# Altium schematic symbol library МЦТР.00010528.00.001.SCHLIB: 54 symbols
Pins are listed as number, name and electrical type; pins without a type are passive.

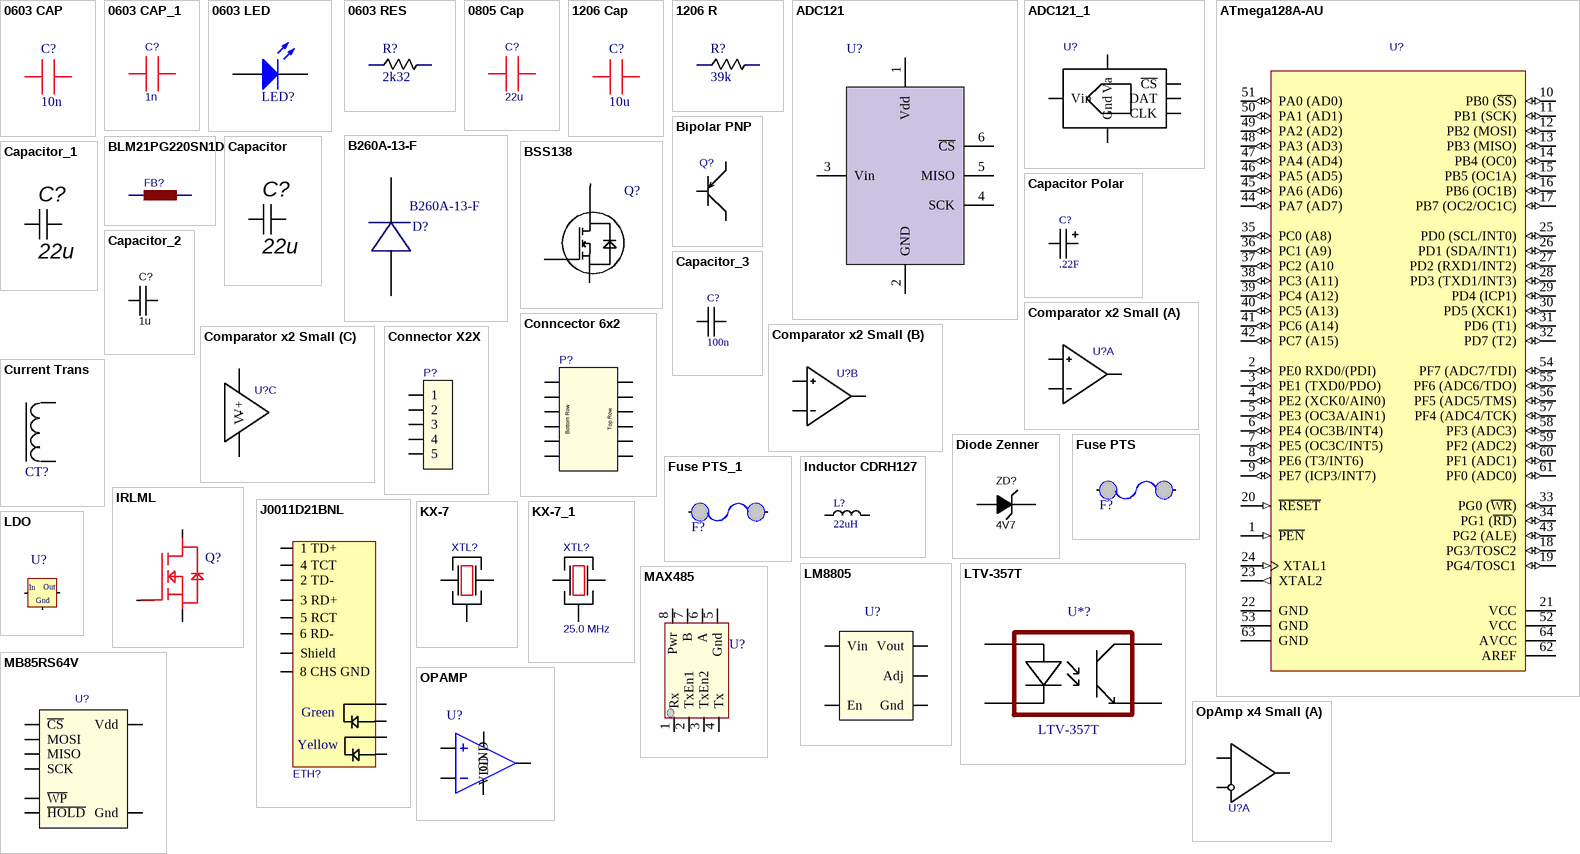
[diagram p0: symbols 0603 CAP to OpAmp x4 Small]

## 0603 CAP
designator C?, comment 10n
CC0603JRX7R9BB103
footprint 0603
pins: 1, 2

## 0603 CAP_1
designator C?, comment 1n
CC1206KKX7RDBB102
footprint 1206
pins: 1, 2

## 0603 LED
designator LED?, comment LED Green  (value not drawn)
KP-1608SGC; Published: 8-Jun-2000; LatestRevisionDate: 08-Jul-2005; LatestRevisionNote: Mech Layer 1 removed.; PackageReference: LED-0; Publisher: Altium Limited; PackageDescription: LED; 2 Leads
footprint 0603
pins: 1 A, 2 K

## 0603 RES
designator R?, comment 2k32
RC0603FR-072K32L
footprint 0603
pins: 1, 2

## 0805 Cap
designator C?, comment 22u
CC1206KKX5R8BB226
footprint 1206
pins: 1, 2

## 1206 Cap
designator C?, comment 10u
GRM32ER71H106KA12L
footprint 1210
pins: 1, 2

## 1206 R
designator R?, comment 39k
RC1206FR-0739KL
footprint 1206
pins: 1, 2

## ADC121
designator U?, comment SAR ADC  (value not drawn)
ADC121S021CIMF
footprint SOT23 - 6
pins: 1 Vdd, 2 GND, 3 Vin, 4 SCK, 5 MISO, 6 ~{CS}

## ADC121_1
designator U?, comment SAR ADC  (value not drawn)
ADC121S021CIMF
footprint SOT-23-6
pins: 1 Va, 2 Gnd, 3 Vin, 4 CLK, 5 DAT, 6 ~{CS}

## ATmega128A-AU
designator U?, comment MCU  (value not drawn)
ATmega128A-AU; DatasheetVersion: revH, Feb-2011; PackageVersion: revC, Oct-2010; PackageReference: 64A; PackageDescription: 64-Pin Plastic Thin Profile Quad Flat Pack, 14 x 14 x 1.0 mm Body, 0.8 mm Pitch (TQFP); Code_JEDEC: MS-026-AEB; ComponentLink1Description: Manufacturer URL; ComponentLink1URL: http://www.atmel.com/; ComponentLink2Description: ATmega128A Datasheet; ComponentLink2URL: http://www.atmel.com/dyn/resources/prod_documents/doc8151.pdf; ComponentLink3Description: ATmega128A Summary; ComponentLink3URL: http://www.atmel.com/dyn/resources/prod_documents/8151S.pdf
footprint 64A_N (Thin QFP, 64-Leads, Body 14x14mm, Pitch 0.8mm, IPC Medium Density)
pins: 1 ~{PEN} (in), 2 PE0 RXD0/(PDI) (io), 3 PE1 (TXD0/PDO) (io), 4 PE2 (XCK0/AIN0) (io), 5 PE3 (OC3A/AIN1) (io), 6 PE4 (OC3B/INT4) (io), 7 PE5 (OC3C/INT5) (io), 8 PE6 (T3/INT6) (io), 9 PE7 (ICP3/INT7) (io), 10 PB0 (~{SS}) (io), 11 PB1 (SCK) (io), 12 PB2 (MOSI) (io), 13 PB3 (MISO) (io), 14 PB4 (OC0) (io), 15 PB5 (OC1A) (io), 16 PB6 (OC1B) (io), 17 PB7 (OC2/OC1C) (io), 18 PG3/TOSC2 (io), 19 PG4/TOSC1 (io), 20 ~{RESET} (in), 21 VCC (power), 22 GND (power), 23 XTAL2 (out), 24 XTAL1 (in), 25 PD0 (SCL/INT0) (io), 26 PD1 (SDA/INT1) (io), 27 PD2 (RXD1/INT2) (io), 28 PD3 (TXD1/INT3) (io), 29 PD4 (ICP1) (io), 30 PD5 (XCK1) (io), 31 PD6 (T1) (io), 32 PD7 (T2) (io), 33 PG0 (~{WR}) (io), 34 PG1 (~{RD}) (io), 35 PC0 (A8) (io), 36 PC1 (A9) (io), 37 PC2 (A10 (io), 38 PC3 (A11) (io), 39 PC4 (A12) (io), 40 PC5 (A13) (io), 41 PC6 (A14) (io), 42 PC7 (A15) (io), 43 PG2 (ALE) (io), 44 PA7 (AD7) (io), 45 PA6 (AD6) (io), 46 PA5 (AD5) (io), 47 PA4 (AD4) (io), 48 PA3 (AD3) (io), 49 PA2 (AD2) (io), 50 PA1 (AD1) (io), 51 PA0 (AD0) (io), 52 VCC (power), 53 GND (power), 54 PF7 (ADC7/TDI) (io), 55 PF6 (ADC6/TDO) (io), 56 PF5 (ADC5/TMS) (io), 57 PF4 (ADC4/TCK) (io), 58 PF3 (ADC3) (io), 59 PF2 (ADC2) (io), 60 PF1 (ADC1) (io), 61 PF0 (ADC0) (io), 62 AREF (power), 63 GND (power), 64 AVCC (power)

## B260A-13-F
designator D?
footprint DO-214Pol
pins: 1, 2 1

## Bipolar PNP
designator Q?, comment PNP Bipolar Transistor  (value not drawn)
BC857
footprint SOT-23
pins: 1 B, 2 E, 3 C

## BLM21PG220SN1D
designator FB?, comment Ferrite Bead  (value not drawn)
BLM21PG220SN1D
footprint 0805
pins: 1, 2

## BSS138
designator Q?, comment MOSFET-N  (value not drawn)
IRLML2502TR
footprint SOT23
pins: 1 G, 2 S, 3 D

## Capacitor
designator C?, comment 22u
CC0805MKX5R6BB226; Value: 100 нФ; Type: Конденсатор ЧИП; Name: 0805; Power/Voltage: 50В; Tolerance: 10%
footprint 0805
pins: 1, 2

## Capacitor Polar
designator C?, comment .22F
5R5D10F33V
footprint Supercap -D20-V (SuperCapacitor D=20 mm Vertical Orientation); pin to pad 1>2 2>1
pins: 1, 2

## Capacitor_1
designator C?, comment 22u
CC0805MKX5R6BB226; Value: 100 нФ; Type: Конденсатор ЧИП; Name: 0805; Power/Voltage: 50В; Tolerance: 10%
footprint 0805
pins: 1, 2

## Capacitor_2
designator C?, comment 1u
CC0603KRX5R7BB105
footprint CAP CER 0603 NP (Capacitor Ceramical SMD 0603 Non-Polar)
pins: 1, 2

## Capacitor_3
designator C?, comment 100n
CC0603KRX7R9BB104
footprint 0603
pins: 1, 2

## Comparator x2 Small
designator U?  (value not drawn)
LM2903
footprint SOIC-8; pin to pad 1>3 3>1 4>5 5>6 6>7 7>8 8>4
part A pins: 1 +IN, 2 -IN, 3 OUT
part B pins: 4 +IN, 5 -IN, 6 OUT
part C pins: 7 V+, 8 V-

## Conncector 6x2
designator P?  (value not drawn)
MCD 1,5/6-G1-3,81 PCB Connector
footprint Connector 6x2
pins: 1, 2, 3, 4, 5, 6, 7, 8, 9, 10, 11, 12
text: Bottom Row; Top Row

## Connector X2X
designator P?, comment Conncector X2X  (value not drawn)
EMSTBA 2,5/ 5-G-5,08 PCB Connector
footprint Connector X2X (EMSTBA 2,5/ 5-G-5,08 PCB Connector)
pins: 1, 2, 3, 4, 5

## Current Trans
designator CT?, comment Current Transformer  (value not drawn)
AC-1005
footprint Talema AC1005 (Current Transformer Talema AC1005)
pins: 1, 2

## Diode Zenner
designator ZD?, comment 4V7
BZX384-C4V7
footprint SOD323 (SC-76) - Reflow (SOD323 (SC-76) for Reflow Soldering); pin to pad 1>2 2>1
pins: 1 A, 2 C

## Fuse PTS
designator F?, comment Resettable FUSE  (value not drawn)
MF-MSMF030-2
footprint 1812
pins: 1, 2

## Fuse PTS_1
designator F?, comment Resettable FUSE  (value not drawn)
MF-USMF005-2
footprint 1210
pins: 1, 2

## Inductor CDRH127
designator L?, comment 22uH
CDRH127/LDNP-220MC; Value: 22uH
footprint CDRH127
pins: 1, 2

## IRLML
designator Q?, comment MOSFET-N  (value not drawn)
IRLML2502TR
footprint SOT23
pins: 1, 2, 3

## J0011D21BNL
designator ETH?, comment Ethernet RJ-45 Port  (value not drawn)
J0011D21BNL
footprint J011D21BNL (Ehernet Port J011D21BNL by YAGEO)
pins: 1 1 TD+, 2 2 TD-, 3 3 RD+, 4 4 TCT, 5 5 RCT, 6 6 RD-, 8 8 CHS GND, 9 LDGr, 10 LDGr, 11 LDYE, 12 LDYE, SHIELD Shield
text: Green; Yellow

## KX-7
designator XTL?, comment 16.0 MHz  (value not drawn)
12.88605
footprint ABM10
pins: 1 5, 2, 3 5

## KX-7_1
designator XTL?, comment 25.0 MHz
12.88711
footprint KX-7 XTAL
pins: 1 5, 2, 3 5

## LDO
designator U?, comment LDO 5V  (value not drawn)
LD1117S50CTR
footprint SOT223
pins: 1 GND, 2 OUT, 3 IN
text: In; Out; Gnd

## LM8805
designator U?, comment LDO with Enable Pin  (value not drawn)
LM8805SF5-3.3
footprint SOT-23-5
pins: 1 Vin, 2 Gnd, 3 En, 4 Adj, 5 Vout

## LTV-357T
designator U*?
footprint SOP-4; pin to pad Anode>1 Cathode>2 Collector>4 Emmiter>3
pins: Anode A, Cathode C, Collector C, Emmiter E

## MAX485
designator U?, comment RS485 Driver  (value not drawn)
SN65HVD3082EDR
footprint SOIC 8
pins: 1 Rx, 2 TxEn1, 3 TxEn2, 4 Tx, 5 Gnd, 6 A, 7 B, 8 Pwr

## MB85RS64V
designator U?, comment FRAM SPI IC  (value not drawn)
MB85RS64VPNF-G-JNERE1
footprint SOIC-8
pins: 1 ~{CS}, 2 MISO, 3 ~{WP}, 4 Gnd, 5 MOSI, 6 SCK, 7 ~{HOLD}, 8 Vdd

## OPAMP
designator U?, comment TS321ILT  (value not drawn)
footprint SOT235
pins: 1 OUT, 2 GND, 3 +IN, 4 -IN, 5 VDD

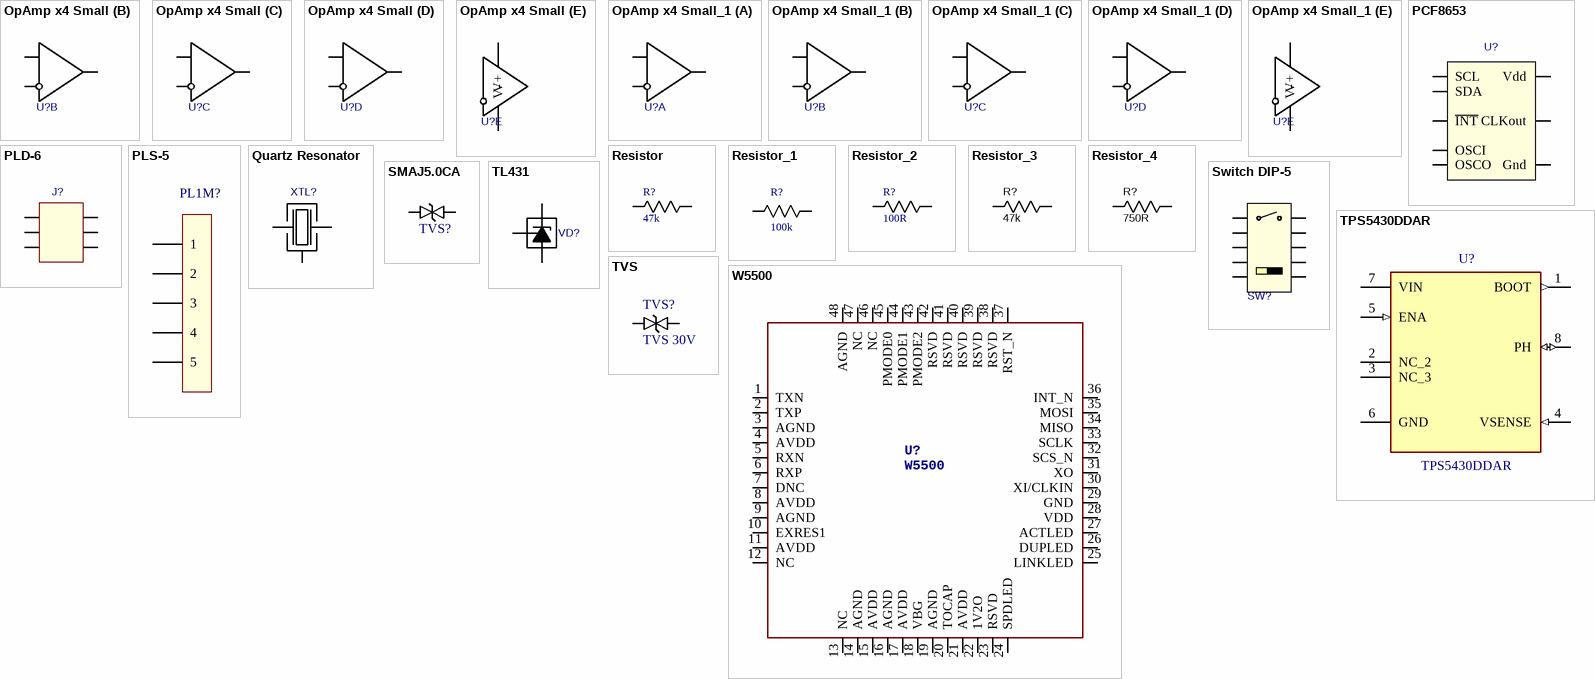
[diagram p1: symbols OpAmp x4 Small to W5500]

## OpAmp x4 Small
designator U?  (value not drawn)
LMV324IDT
footprint SOIC-14; pin to pad 1>3 3>1 4>5 5>6 6>7 7>10 8>9 9>8 10>12 11>13 12>14 13>11 14>4
part A pins: 1 +IN1, 2 -IN1, 3 OUT1
part B pins: 4 +IN2, 5 -IN2, 6 OUT2
part C pins: 7 +IN3, 8 -IN3, 9 OUT3
part D pins: 10 +IN4, 11 -IN4, 12 OUT4
part E pins: 13 V+, 14 V-

## OpAmp x4 Small_1
designator U?, comment OpAmp x4 Small  (value not drawn)
LMV324IDT
footprint SOIC-14; pin to pad 1>3 3>1 4>5 5>6 6>7 7>10 8>9 9>8 10>12 11>13 12>14 13>11 14>4
part A pins: 1 +IN, 2 -IN, 3 OUT
part B pins: 4 +IN, 5 -IN, 6 OUT
part C pins: 7 +IN, 8 -IN, 9 OUT
part D pins: 10 +IN, 11 -IN, 12 OUT
part E pins: 13 V+, 14 V-

## PCF8653
designator U?, comment Real-Time Clock IC  (value not drawn)
PCF8563T/5,518
footprint SOIC-8
pins: 1 OSCI, 2 OSCO, 3 ~{INT}, 4 Gnd, 5 SDA, 6 SCL, 7 CLKout, 8 Vdd

## PLD-6
designator J?, comment Pin Line 2x3  (value not drawn)
PLD-6
footprint PLD-6 2.54 (2 Rows x 3 Pins)
pins: 1, 2, 3, 4, 5, 6

## PLS-5
designator PL1M?, comment Pin Line  (value not drawn)
PLS-5 2.54
footprint PLS-5 2.54
pins: 1, 2, 3, 4, 5

## Quartz Resonator
designator XTL?, comment 32.768 kHz  (value not drawn)
12.87150
footprint XTAL KX-327NHT
pins: 1, 2, 3

## Resistor
designator R?, comment 47k
RC0603FR-0747KL
footprint RES 0603 (Resistor SMD 0603)
pins: 1, 2

## Resistor_1
designator R?, comment 100k
RC0603FR-07100KL
footprint 0603
pins: 1, 2

## Resistor_2
designator R?, comment 100R
RT1206BRD07100RL
footprint 1206
pins: 1, 2

## Resistor_3
designator R?, comment 47k
RC0603FR-0747KL
footprint RES 0603 (Resistor SMD 0603)
pins: 1, 2

## Resistor_4
designator R?, comment 750R
RC1206FR-07750RL
footprint RES 1210 (Resistor SMD 1210)
pins: 1, 2

## SMAJ5.0CA
designator TVS?, comment TVS 5V  (value not drawn)
SMAJ5.0CA
footprint DO-214AC
pins: 1, 2

## Switch DIP-5
designator SW?, comment DIP-Switch 5 Pins  (value not drawn)
DIP-Switch NDP-05
footprint Switch DIP-5 (DIP-Switch 5 Pins)
pins: 1, 2, 3, 4, 5, 6, 7, 8, 9, 10

## TL431
designator VD?, comment Zenner Diode Adjustable  (value not drawn)
TL431ACDBZR
footprint SOT-23; pin to pad 1>3 2>1 3>2
pins: 1 A, 2 C, 3 Ref

## TPS5430DDAR
designator U?
footprint SOIC-8 + Thermal Pad
pins: 1 BOOT (out), 2 NC_2, 3 NC_3, 4 VSENSE (in), 5 ENA (in), 6 GND (power), 7 VIN (power), 8 PH (io)

## TVS
designator TVS?, comment TVS 30V
SMAJ30CA
footprint DO-214AC
pins: 1, 2

## W5500
designator U?
footprint LQFP 48
pins: 1 TXN, 2 TXP, 3 AGND, 4 AVDD, 5 RXN, 6 RXP, 7 DNC, 8 AVDD, 9 AGND, 10 EXRES1, 11 AVDD, 12 NC, 13 NC, 14 AGND, 15 AVDD, 16 AGND, 17 AVDD, 18 VBG, 19 AGND, 20 TOCAP, 21 AVDD, 22 1V2O, 23 RSVD, 24 SPDLED, 25 LINKLED, 26 DUPLED, 27 ACTLED, 28 VDD, 29 GND, 30 XI/CLKIN, 31 XO, 32 SCS_N, 33 SCLK, 34 MISO, 35 MOSI, 36 INT_N, 37 RST_N, 38 RSVD, 39 RSVD, 40 RSVD, 41 RSVD, 42 RSVD, 43 PMODE2, 44 PMODE1, 45 PMODE0, 46 NC, 47 NC, 48 AGND